# Altium schematic symbol library zubax.SchLib: 2 symbols
Pins are listed as number, name and electrical type; pins without a type are passive.

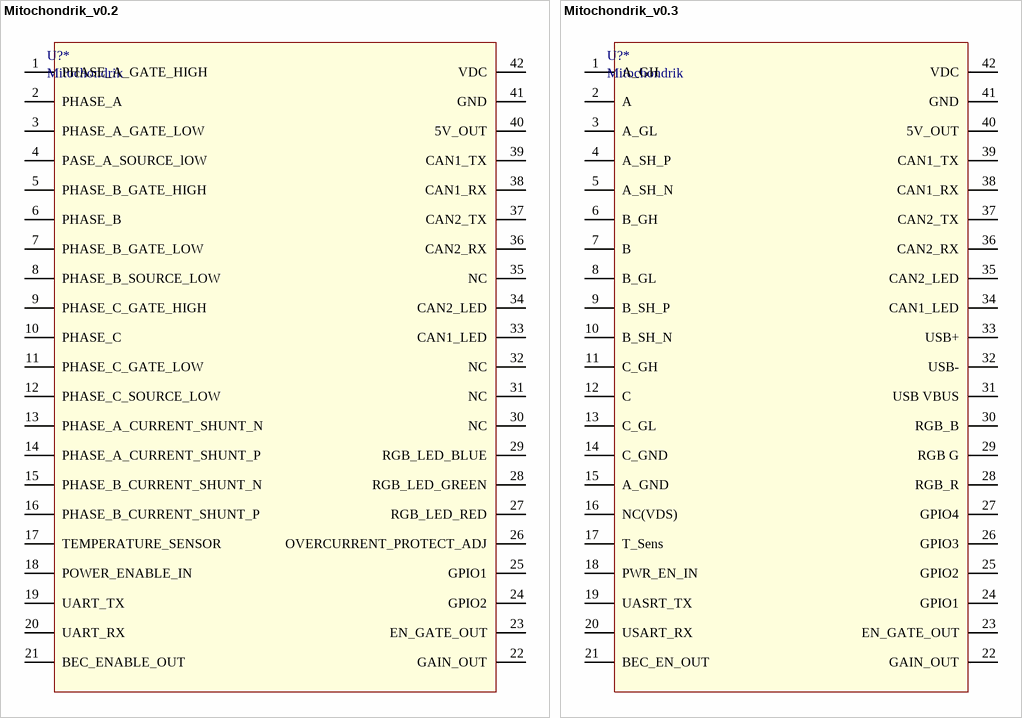
[diagram p0: symbols Mitochondrik_v0.2 to Mitochondrik_v0.3]

## Mitochondrik_v0.2
designator U?*, comment Mitochondrik
Integrated sensorless PMSM/BLDC motor controller chip for UAV and robotic propulsion systems; supports FOC, sine wave drive, vector control.
footprint mitochondrik
pins: 1 PHASE_A_GATE_HIGH, 2 PHASE_A, 3 PHASE_A_GATE_LOW, 4 PASE_A_SOURCE_lOW, 5 PHASE_B_GATE_HIGH "Phase B Low Gate signal", 6 PHASE_B, 7 PHASE_B_GATE_LOW, 8 PHASE_B_SOURCE_LOW, 9 PHASE_C_GATE_HIGH, 10 PHASE_C, 11 PHASE_C_GATE_LOW, 12 PHASE_C_SOURCE_LOW, 13 PHASE_A_CURRENT_SHUNT_N, 14 PHASE_A_CURRENT_SHUNT_P, 15 PHASE_B_CURRENT_SHUNT_N, 16 PHASE_B_CURRENT_SHUNT_P, 17 TEMPERATURE_SENSOR, 18 POWER_ENABLE_IN, 19 UART_TX, 20 UART_RX, 21 BEC_ENABLE_OUT, 22 GAIN_OUT, 23 EN_GATE_OUT, 24 GPIO2, 25 GPIO1, 26 OVERCURRENT_PROTECT_ADJ, 27 RGB_LED_RED, 28 RGB_LED_GREEN, 29 RGB_LED_BLUE, 30 NC, 31 NC, 32 NC, 33 CAN1_LED, 34 CAN2_LED, 35 NC, 36 CAN2_RX, 37 CAN2_TX, 38 CAN1_RX, 39 CAN1_TX, 40 5V_OUT, 41 GND, 42 VDC

## Mitochondrik_v0.3
designator U?*, comment Mitochondrik
Integrated sensorless PMSM/BLDC motor controller chip for UAV and robotic propulsion systems; supports FOC, sine wave drive, vector control.
footprint mitochondrik
pins: 1 A_GH "Phase A High Gate signal", 2 A "Phase A Motor output", 3 A_GL "Phase A Low Gate signal", 4 A_SH_P "Phase A Shunt resistor +", 5 A_SH_N "Phase A Shunt resistror -", 6 B_GH "Phase B High Gate signal", 7 B "Phase B motor output", 8 B_GL "Phase B Low Gate signal", 9 B_SH_P "Phase B Shunt resistor +", 10 B_SH_N "Phase A High Gate signal", 11 C_GH "Phase A High Gate signal", 12 C "Phase C Motor output", 13 C_GL "Phase C Low Gate signal", 14 C_GND "Phase C GND", 15 A_GND "Analog ground", 16 NC(VDS) "NC", 17 T_Sens "Thermistor 1", 18 PWR_EN_IN "Power Enable Input", 19 UASRT_TX "USART TX", 20 USART_RX "USART RX", 21 BEC_EN_OUT "BEC Enable output", 22 GAIN_OUT, 23 EN_GATE_OUT, 24 GPIO1 "gpio1", 25 GPIO2, 26 GPIO3 "gpio3", 27 GPIO4 "gpio4", 28 RGB_R "Red led", 29 RGB G "Green led", 30 RGB_B "Blue led", 31 USB VBUS "USB 5V", 32 USB- "USB data -", 33 USB+ "USB data +", 34 CAN1_LED "CAN1 led", 35 CAN2_LED "CAN2 led", 36 CAN2_RX "CAN2 rx", 37 CAN2_TX "CAN2 tx", 38 CAN1_RX "CAN1 rx", 39 CAN1_TX "CAN1 tx", 40 5V_OUT "5V BEC", 41 GND "Power ground", 42 VDC "DC Power supply input"